# EAGLE library part POKEY57U (library libliblib)
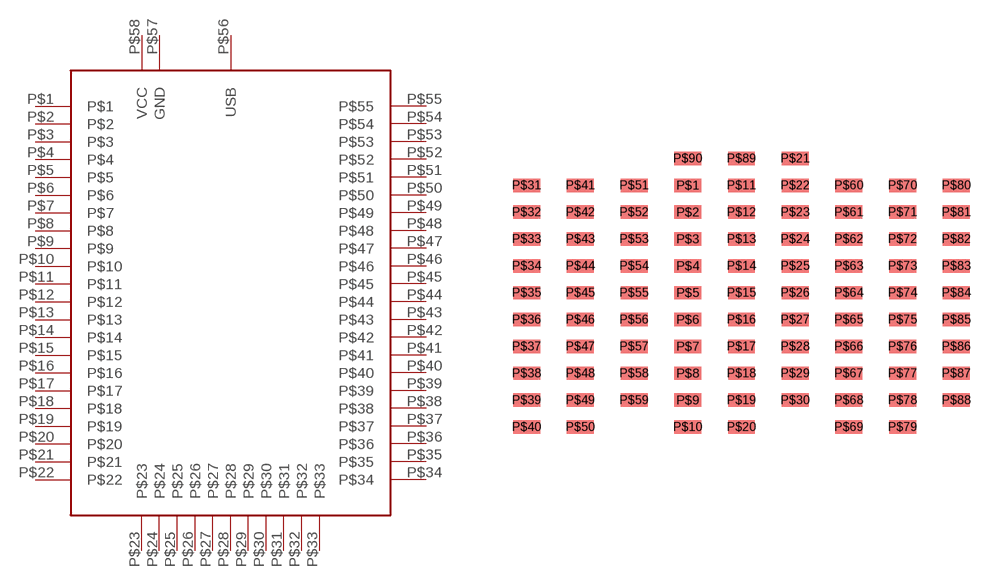
[diagram p4: symbol with the pads of POKEY57U; footprint POKEY57U]

Designator prefix -

## POKEY57U  [POKEY57U]
P$1  P$1
P$2  P$2
P$3  P$3
P$4  P$4
P$5  P$5
P$6  P$6
P$7  P$7
P$8  P$8
P$9  P$9
P$10  P$10
P$11  P$11
P$12  P$12
P$13  P$13
P$14  P$14
P$15  P$15
P$16  P$16
P$17  P$17
P$18  P$18
P$19  P$19
P$20  P$20
P$21  P$21
P$22  P$22
P$23  P$23
P$24  P$24
P$25  P$25
P$26  P$26
P$27  P$27
P$28  P$28
P$29  P$29
P$30  P$30
P$31  P$31
P$32  P$32
P$33  P$33
P$34  P$34
P$35  P$35
P$36  P$36
P$37  P$37
P$38  P$38
P$39  P$39
P$40  P$40
P$41  P$41
P$42  P$42
P$43  P$43
P$44  P$44
P$45  P$45
P$46  P$46
P$47  P$47
P$48  P$48
P$49  P$49
P$50  P$50
P$51  P$51
P$52  P$52
P$53  P$53
P$54  P$54
P$55  P$55
P$56  USB
P$57  GND
P$58  VCC

## Footprint POKEY57U (pad centres in mm)
smd 1.27 x 0.635: P$1 -11.43,10.16; P$2 -11.43,8.89; P$3 -11.43,7.62; P$4 -11.43,6.35; P$5 -11.43,5.08; P$6 -11.43,3.81; P$7 -11.43,2.54; P$8 -11.43,1.27; P$9 -11.43,0; P$10 -11.43,-1.27; P$11 -8.89,10.16; P$12 -8.89,8.89; P$13 -8.89,7.62; P$14 -8.89,6.35; P$15 -8.89,5.08; P$16 -8.89,3.81; P$17 -8.89,2.54; P$18 -8.89,1.27; P$19 -8.89,0; P$20 -8.89,-1.27; P$21 -6.35,11.43; P$22 -6.35,10.16; P$23 -6.35,8.89; P$24 -6.35,7.62; P$25 -6.35,6.35; P$26 -6.35,5.08; P$27 -6.35,3.81; P$28 -6.35,2.54; P$29 -6.35,1.27; P$30 -6.35,0; P$31 -19.05,10.16; P$32 -19.05,8.89; P$33 -19.05,7.62; P$34 -19.05,6.35; P$35 -19.05,5.08; P$36 -19.05,3.81; P$37 -19.05,2.54; P$38 -19.05,1.27; P$39 -19.05,0; P$40 -19.05,-1.27; P$41 -16.51,10.16; P$42 -16.51,8.89; P$43 -16.51,7.62; P$44 -16.51,6.35; P$45 -16.51,5.08; P$46 -16.51,3.81; P$47 -16.51,2.54; P$48 -16.51,1.27; P$49 -16.51,0; P$50 -16.51,-1.27; P$51 -13.97,10.16; P$52 -13.97,8.89; P$53 -13.97,7.62; P$54 -13.97,6.35; P$55 -13.97,5.08; P$56 -13.97,3.81; P$57 -13.97,2.54; P$58 -13.97,1.27; P$59 -13.97,0; P$60 -3.81,10.16; P$61 -3.81,8.89; P$62 -3.81,7.62; P$63 -3.81,6.35; P$64 -3.81,5.08; P$65 -3.81,3.81; P$66 -3.81,2.54; P$67 -3.81,1.27; P$68 -3.81,0; P$69 -3.81,-1.27; P$70 -1.27,10.16; P$71 -1.27,8.89; P$72 -1.27,7.62; P$73 -1.27,6.35; P$74 -1.27,5.08; P$75 -1.27,3.81; P$76 -1.27,2.54; P$77 -1.27,1.27; P$78 -1.27,0; P$79 -1.27,-1.27; P$80 1.27,10.16; P$81 1.27,8.89; P$82 1.27,7.62; P$83 1.27,6.35; P$84 1.27,5.08; P$85 1.27,3.81; P$86 1.27,2.54; P$87 1.27,1.27; P$88 1.27,0; P$89 -8.89,11.43; P$90 -11.43,11.43